# EAGLE library part B66243B1018T1 (library B66243B1018T1)
Ferrite Cores & Accessories CF-E42/21 15-H-1S-18P/ Source: Datasheet
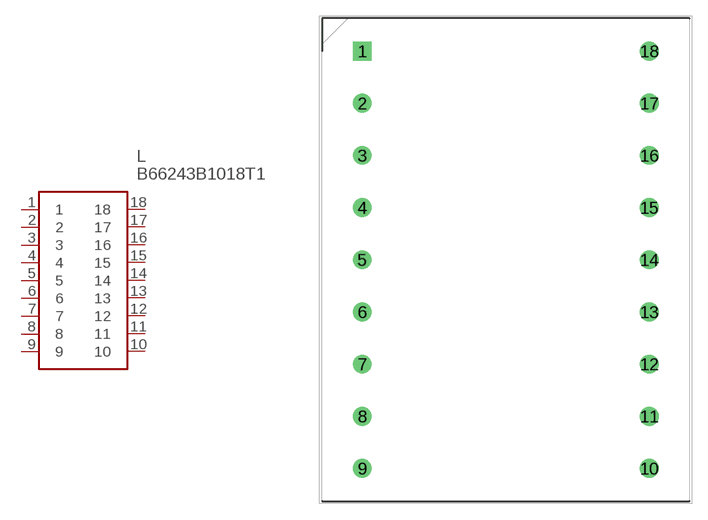
[diagram p0: symbol with the pads of DIPS2750W100P500L4600H4140Q18N; footprint DIPS2750W100P500L4600H4140Q18N]

Designator prefix L

## B66243B1018T1 (DESCRIPTION: Ferrite Cores & Accessories CF-E42/21 15-H-1S-18P/; HEIGHT: 41.4mm; MANUFACTURER_NAME: EPCOS; MANUFACTURER_PART_NUMBER: B66243B1018T1)  [DIPS2750W100P500L4600H4140Q18N]
1  1
2  2
3  3
4  4
5  5
6  6
7  7
8  8
9  9
10  10
11  11
12  12
13  13
14  14
15  15
16  16
17  17
18  18

## Footprint DIPS2750W100P500L4600H4140Q18N (pad centres in mm)
B66243B1018T1
drill 1.2 pad 1.8 square: 1 0,0
drill 1.2 pad 1.8: 2 0,-5; 3 0,-10; 4 0,-15; 5 0,-20; 6 0,-25; 7 0,-30; 8 0,-35; 9 0,-40; 10 27.5,-40; 11 27.5,-35; 12 27.5,-30; 13 27.5,-25; 14 27.5,-20; 15 27.5,-15; 16 27.5,-10; 17 27.5,-5; 18 27.5,0